# Altium integrated library LM7812CT.IntLib: 1 symbol
Pins are listed as number, name and electrical type; pins without a type are passive.

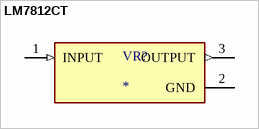
[diagram p0: symbol LM7812CT]

## LM7812CT
designator VR?
Linear Voltage Regulator IC Positive Fixed 1 Output 1A TO-220-3; MF: ON Semiconductor; MP: LM7812CT; SnapEDA_Link: https://www.snapeda.com/parts/LM7812CT/Onsemi/view-part/?ref=snap; Package: TO-220-3 ON; Value: *; Check_prices: https://www.snapeda.com/parts/LM7812CT/Onsemi/view-part/?ref=eda
footprint TO253P1057X470X2040-3
pins: 1 INPUT (in), 2 GND (power), 3 OUTPUT (out)